# Altium footprint library 10FMS10SPTF.PcbLib: 1 footprints
Each footprint in its own frame and in the unit in brackets; x right, y up, seen from the top. Pads: shape width x height; smd on the part's side, far side on the other; paste and mask are expansions set on the pad; w line width, h text height; cw(c..) or ccw(c..) is an arc to the next point about the centre after c.
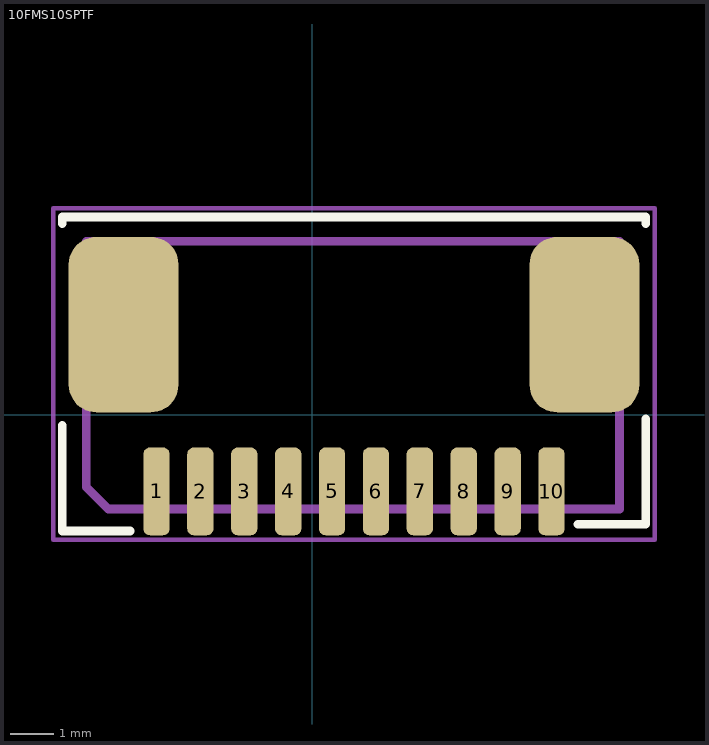
[diagram p0: the footprint, top view; thin cyan lines are the x and y axes]

## 10FMS10SPTF [mm]
pads (12):
  rrect50% 0.6x2 smd mask+0: 1(-3.55,-1.75) 2(-2.55,-1.75) 3(-1.55,-1.75) 4(-0.55,-1.75) 5(0.45,-1.75) 6(1.45,-1.75) 7(2.45,-1.75) 8(3.45,-1.75) 9(4.45,-1.75) 10(5.45,-1.75)
  rrect50% 2.5x4 smd mask+0: ""(-4.3,2.05) ""(6.2,2.05)
Top Overlay:
  lines w0.2: -5.7,-0.25 -5.7,-2.65 -4.15,-2.65 ; -5.7,4.35 -5.7,4.5 7.6,4.5 7.6,4.35 ; 6.05,-2.5 7.6,-2.5 7.6,-0.1
Mechanical 3:
  lines w0.2: -5.15,-1.65 -4.65,-2.15 7,-2.15 7,3.95 -5.15,3.95 -5.15,3.25 -5.15,-1.65
Mechanical 7:
  lines w0.1: -5.9,-2.85 -5.9,-2 -5.9,4.7 7.8,4.7 7.8,-2.85 -5.9,-2.85
Mechanical 9 (Mech9):
  text ".Designator" at -10.397,0.15 h2
3D body: height 2.8, standoff 0, extent -5.9,-2.85 7.8,4.7